# Altium footprint library TP_2PIN.PcbLib: 1 footprints
Each footprint in its own frame and in the unit in brackets; x right, y up, seen from the top. Pads: shape width x height; smd on the part's side, far side on the other; paste and mask are expansions set on the pad; w line width, h text height; cw(c..) or ccw(c..) is an arc to the next point about the centre after c.
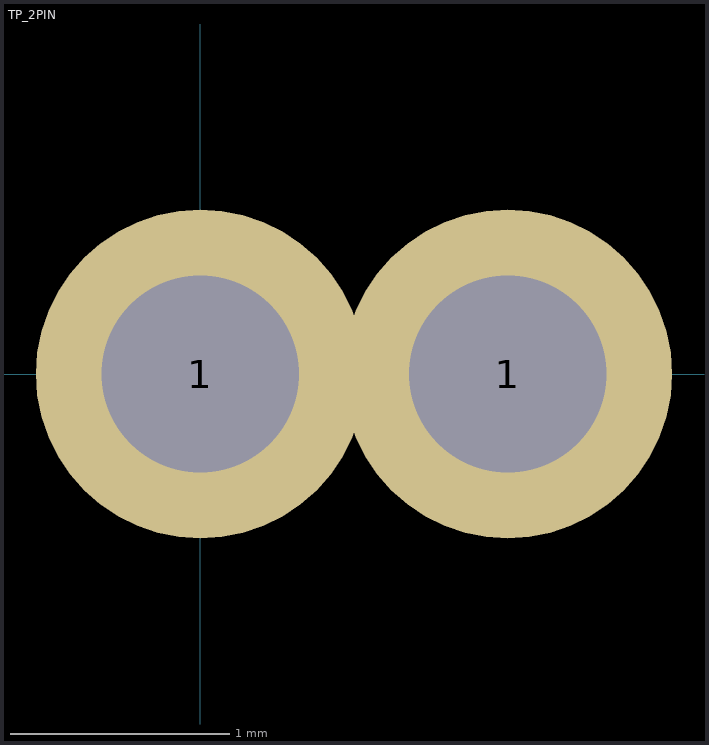
[diagram p0: the footprint, top view; thin cyan lines are the x and y axes]

## TP_2PIN [mm] "Testpoint; 2 Pin;"
pads (2):
  round 1.5 hole 0.9: 1(0,0) 1(1.4,0)